# Altium schematic symbol library IC_TLP293.Schlib: 1 symbol
Pins are listed as number, name and electrical type; pins without a type are passive.

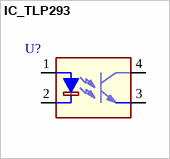
[diagram p0: symbol IC_TLP293]

## IC_TLP293
designator U?
pins: 1 ANODE, 2 CATHODE, 3 EMITTOR, 4 COLLECTOR